# Altium schematic symbol library washer.SchLib: 1 symbol
Pins are listed as number, name and electrical type; pins without a type are passive.

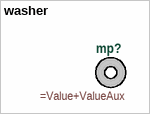
[diagram p0: symbol washer]

## washer
designator mp?  (mechanical)
=Description